# EAGLE library part DAC124S085 (library Mine)
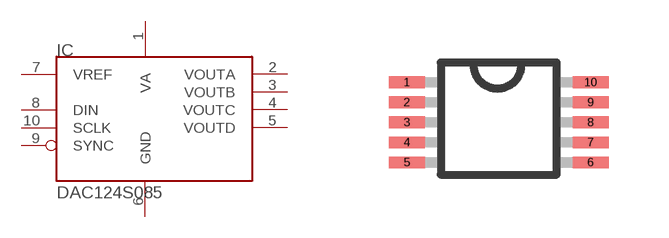
[diagram p55: symbol with the pads of VSSOP-10; footprint VSSOP-10]

Designator prefix IC

## DAC124S085  [VSSOP-10]
1  VA  sup
2  VOUTA  out
3  VOUTB  out
4  VOUTC  out
5  VOUTD  out
6  GND  sup
7  VREF  in
8  DIN  in
9  SYNC  in
10  SCLK  in

## Footprint VSSOP-10 (pad centres in mm)
smd 0.9 x 0.3: 1 -6.15,3.6; 2 -6.15,3.1; 3 -6.15,2.6; 4 -6.15,2.1; 5 -6.15,1.6; 6 -1.55,1.6; 7 -1.55,2.1; 8 -1.55,2.6; 9 -1.55,3.1; 10 -1.55,3.6